# Altium footprint library BJT_Diodes_Incorporated_ZTD09N50DE6QTA_1A_NPN.PcbLib: 1 footprints
Each footprint in its own frame and in the unit in brackets; x right, y up, seen from the top. Pads: shape width x height; smd on the part's side, far side on the other; paste and mask are expansions set on the pad; w line width, h text height; cw(c..) or ccw(c..) is an arc to the next point about the centre after c.
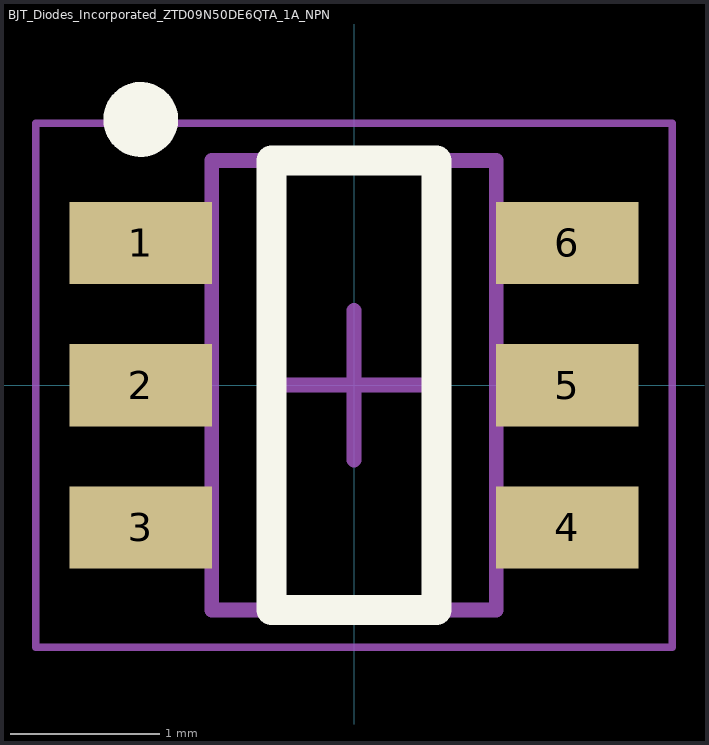
[diagram p0: the footprint, top view; thin cyan lines are the x and y axes]

## BJT_Diodes_Incorporated_ZTD09N50DE6QTA_1A_NPN [mm] "Bipolar Transistors - BJT 50V Dual NPN Low Sat 1A 7V Vebo"
height 1.1
pads (6):
  rect 0.95x0.55 smd: 1(-1.425,0.95) 2(-1.425,0) 3(-1.425,-0.95) 4(1.425,-0.95) 5(1.425,0) 6(1.425,0.95)
Top Overlay:
  circle w0.25: c-1.425,1.775 r0.125
  lines w0.2: -0.55,-1.5 -0.55,1.5 0.55,1.5 0.55,-1.5 -0.55,-1.5
Mechanical 13:
  lines w0.1: -0.95,-1.5 0.95,-1.5 0.95,1.5 -0.95,1.5 -0.95,-1.5
Mechanical 15:
  lines w0.05: -2.125,-1.75 2.125,-1.75 2.125,1.75 -2.125,1.75 -2.125,-1.75
  lines w0.1: -0.5,0 0.5,0 ; 0,-0.5 0,0.5
3D body "SOT95P285X110-6N.step": height 1.1, standoff 0, extent -1.5,-1.5 1.5,1.5